# EAGLE library part TMUX1112PWR (library SeniorDesignParts)
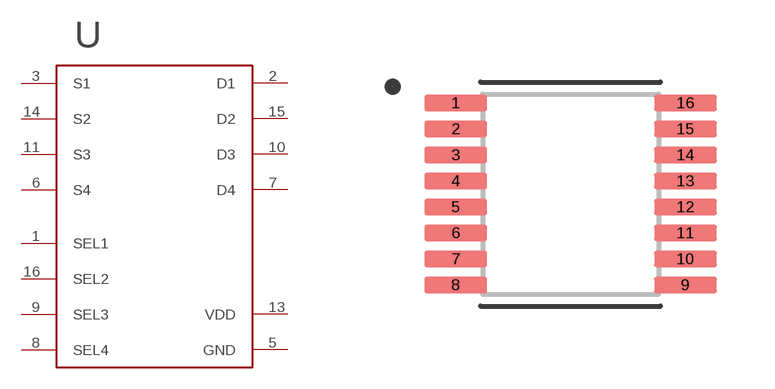
[diagram p4: symbol with the pads of 16-TSSOP; footprint 16-TSSOP]

Designator prefix -

## TMUX1112PWR  [16-TSSOP]
1  SEL1
2  D1
3  S1
5  GND
6  S4
7  D4
8  SEL4
9  SEL3
10  D3
11  S3
13  VDD
14  S2
15  D2
16  SEL2

## Footprint 16-TSSOP (pad centres in mm)
smd 1.57 x 0.41: 1 -2.87,2.275; 2 -2.87,1.625; 3 -2.87,0.975; 4 -2.87,0.325; 5 -2.87,-0.325; 6 -2.87,-0.975; 7 -2.87,-1.625; 8 -2.87,-2.275; 9 2.87,-2.275; 10 2.87,-1.625; 11 2.87,-0.975; 12 2.87,-0.325; 13 2.87,0.325; 14 2.87,0.975; 15 2.87,1.625; 16 2.87,2.275